# Altium schematic symbol library PowerLib.SchLib: 5 symbols
Pins are listed as number, name and electrical type; pins without a type are passive.

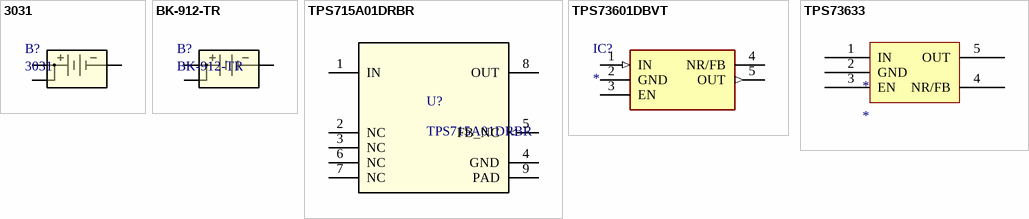
[diagram p0: symbols 3031 to TPS73633]

## 3031
designator B?
No Description Available; Vendor: Keystone Electronics; Built_By: EMA_Cory; SourceLibrary: Add_to_database_2021-02-19; VALUE_2: Value; Datasheet: https://www.mouser.com/datasheet/2/215/031-745379.pdf; Manufacturer_Part_Number: 3031; Copyright: Copyright (C) 2018 Accelerated Designs. All rights reserved; RefDes: RefDes; Type: DEV
footprint 3031_KEY
pins: 1, 2, 3

## BK-912-TR
designator B?
No Description Available; Vendor: Memory Protection Devices, Inc; Built_By: EMA_Cory; SourceLibrary: Memory_Protection_Devices_2020-01-22; VALUE_2: Value; Datasheet: https://www.memoryprotectiondevices.com/datasheets/BK-912-datasheet.pdf; Manufacturer_Part_Number: BK-912-TR; Copyright: Copyright (C) 2018 Accelerated Designs. All rights reserved; RefDes: RefDes; Type: DEV
footprint BK-912-TR_MPD
pins: 1, 2, 3

## TPS715A01DRBR
designator U?
No Description Available; Mfr_Name: Texas Instruments; Alternate_PartNumber: TPS715A01DRBT; CompType: IC; Type: DEV; RefDes: RefDes; Copyright: Copyright (C) 2021 Ultra Librarian. All rights reserved.; Manufacturer_Part_Number: TPS715A01DRBR; Application_BuildNumber: *; PartNumber: TPS715A01DRBR; PackageReference: DRB0008A; MountType: SMT; RoHS: Y; Manufacturer: Texas Instruments
footprint DRB0008A
pins: 1 IN (power), 2 NC, 3 NC, 4 GND (power), 5 FB_NC (in), 6 NC, 7 NC, 8 OUT (power), 9 PAD (power)

## TPS73601DBVT
designator IC?
Integrated Circuit; Manufacturer_Name: Texas Instruments; Manufacturer_Part_Number: TPS73601DBVT; Datasheet Link: http://www.ti.com/lit/ds/symlink/tps73601.pdf; Height: 1.45mm; Mouser2 Part Number: 595-TPS73601DBVT; Mouser2 Price/Stock: https://www.mouser.com/Search/Refine.aspx?Keyword=595-TPS73601DBVT
footprint SOT95P280X145-5N
pins: 1 IN (in), 2 GND (power), 3 EN, 4 NR/FB, 5 OUT (out)

## TPS73633
designator *
TPS73633
footprint TPS73633
pins: 1 IN, 2 GND, 3 EN, 4 NR/FB, 5 OUT